# EAGLE library part IC-ATMEGA32U4-TEENSY2 (library ic)
Teensy 2.0 ATmega32U4 breakout board.
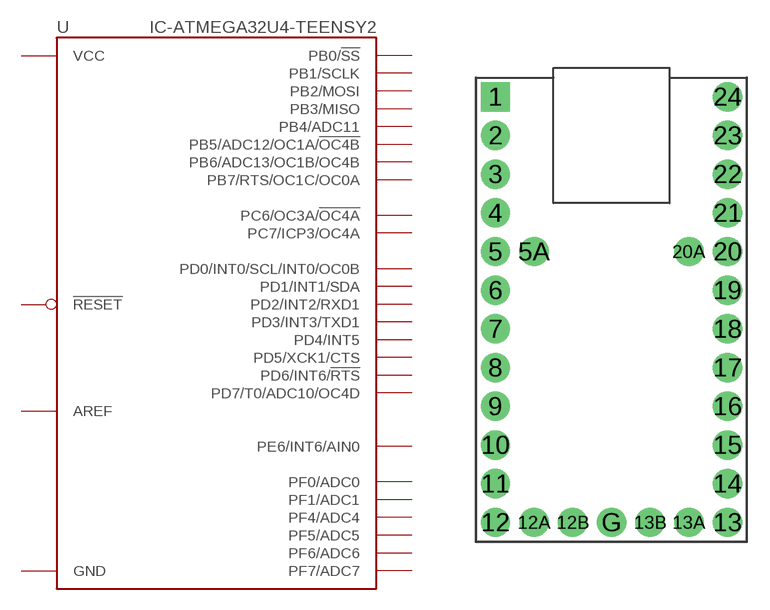
[diagram p1: symbol with the pads of IC-ATMEGA32U4-TEENSY2; footprint IC-ATMEGA32U4-TEENSY2]

Designator prefix U

## IC-ATMEGA32U4-TEENSY2  [IC-ATMEGA32U4-TEENSY2]
1  GND  pwr
2  PB0/!SS
3  PB1/SCLK
4  PB2/MOSI
5  PB3/MISO
5A  PE6/INT6/AIN0
6  PB7/RTS/OC1C/OC0A
7  PD0/INT0/SCL/INT0/OC0B
8  PD1/INT1/SDA
9  PD2/INT2/RXD1
10  PD3/INT3/TXD1
11  PC6/OC3A/!OC4A
12  PC7/ICP3/OC4A
12A  PD5/XCK1/CTS
12B  VCC  pwr
13  PD6/INT6/!RTS
13A  PD4/INT5
13B  !RESET
14  PD7/T0/ADC10/OC4D
15  PB4/ADC11
16  PB5/ADC12/OC1A/!OC4B
17  PB6/ADC13/OC1B/OC4B
18  PF7/ADC7
19  PF6/ADC6
20  PF5/ADC5
20A  AREF  sup
21  PF4/ADC4
22  PF1/ADC1
23  PF0/ADC0
24  VCC  pwr
G  GND  pwr

## Footprint IC-ATMEGA32U4-TEENSY2 (pad centres in mm)
Teensy 2.0 ATmega32U4 breakout board.
drill 1.016 pad 1.93 square: 1 -7.62,13.97
drill 1.016 pad 1.93: 2 -7.62,11.43; 3 -7.62,8.89; 4 -7.62,6.35; 5 -7.62,3.81; 5A -5.08,3.81; 6 -7.62,1.27; 7 -7.62,-1.27; 8 -7.62,-3.81; 9 -7.62,-6.35; 10 -7.62,-8.89; 11 -7.62,-11.43; 12 -7.62,-13.97; 12A -5.08,-13.97; 12B -2.54,-13.97; 13 7.62,-13.97; 13A 5.08,-13.97; 13B 2.54,-13.97; 14 7.62,-11.43; 15 7.62,-8.89; 16 7.62,-6.35; 17 7.62,-3.81; 18 7.62,-1.27; 19 7.62,1.27; 20 7.62,3.81; 20A 5.08,3.81; 21 7.62,6.35; 22 7.62,8.89; 23 7.62,11.43; 24 7.62,13.97; G 0,-13.97